# Altium footprint library SOD-882-2 .PcbLib: 1 footprints
Each footprint in its own frame and in the unit in brackets; x right, y up, seen from the top. Pads: shape width x height; smd on the part's side, far side on the other; paste and mask are expansions set on the pad; w line width, h text height; cw(c..) or ccw(c..) is an arc to the next point about the centre after c.
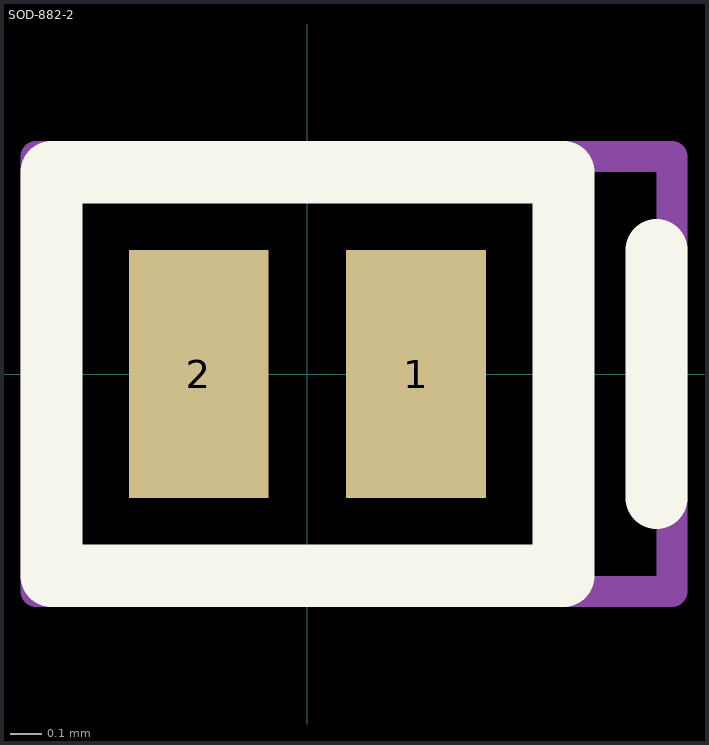
[diagram p0: the footprint, top view; thin cyan lines are the x and y axes]

## SOD-882-2 [mm]
pads (2):
  rect 0.45x0.8 smd: 1(0.35,0) 2(-0.35,0)
Top Overlay:
  lines w0.2: 1.125,-0.4 1.125,0.4 ; -0.825,-0.65 -0.825,0.65 0.825,0.65 0.825,-0.65 -0.825,-0.65
Top Courtyard:
  lines w0.1: -0.875,-0.7 1.175,-0.7 1.175,0.7 -0.875,0.7 -0.875,-0.7
3D body "DFN1006D-2_SOD882D_NEX.step": height 0.41, standoff 0, extent -0.521,-0.33 0.521,0.33